# Altium footprint library TE_AMP_Connector_282836-5Pins.PcbLib: 1 footprints
Each footprint in its own frame and in the unit in brackets; x right, y up, seen from the top. Pads: shape width x height; smd on the part's side, far side on the other; paste and mask are expansions set on the pad; w line width, h text height; cw(c..) or ccw(c..) is an arc to the next point about the centre after c.
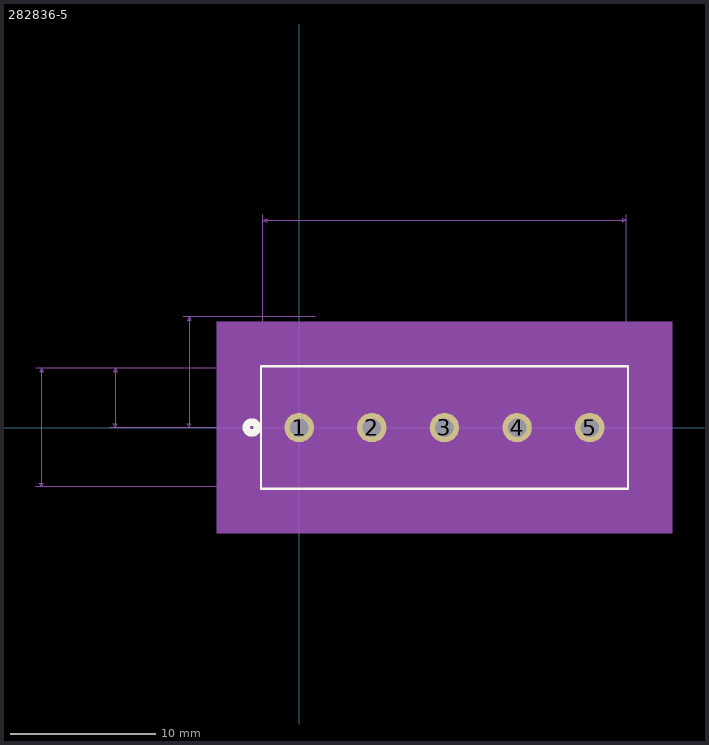
[diagram p0: the footprint, top view; thin cyan lines are the x and y axes]

## 282836-5 [mil]
pads (5):
  round 80 hole 50: 1(0,0) 2(196.85,0) 3(393.7,0) 4(590.55,0) 5(787.4,0)
Top Overlay:
  circle w20: c-128.3,0 r15
  lines w6: -103.3,-166 890.7,-166 890.7,166 -103.3,166 -103.3,-166
Bottom Overlay:
  circle w20: c-128.3,0 r15
Mechanical 5:
  region: -223.3,286 1010.7,286 1010.7,-286 -223.3,-286
Mechanical 7:
  lines w1: -713.3,-161 -98.3,-161 ; -713.3,161 -98.3,161 ; -513.3,0 393.7,0 ; -513.3,161 -98.3,161 ; -313.3,0 393.7,0 ; -313.3,300 43.7,300 ; -213.3,-100 -56.3,-100 ; -213.3,0 393.7,0 ; -198.3,-150 -198.3,-100 ; -198.3,50 -198.3,0 ; -98.3,576 -98.3,161 ; 0,0 0,276 ; 196.85,0 196.85,276 ; 885.7,161 885.7,576 ; 985.7,-50 985.7,0 ; 985.7,50 985.7,0 ; -698.3,-161 -698.3,161 ; -698.3,-161 -703.3,-151 -693.3,-151 -698.3,-161 ; -698.3,161 -703.3,151 -693.3,151 -698.3,161 ; -498.3,0 -498.3,161 ; -498.3,0 -503.3,10 -493.3,10 -498.3,0 ; -498.3,161 -503.3,151 -493.3,151 -498.3,161 ; -298.3,0 -298.3,300 ; -298.3,0 -303.3,10 -293.3,10 -298.3,0 ; -298.3,300 -303.3,290 -293.3,290 -298.3,300 ; -198.3,-100 -203.3,-110 -193.3,-110 -198.3,-100 ; -198.3,0 -203.3,10 -193.3,10 -198.3,0 ; -98.3,561 885.7,561 ; -98.3,561 -88.3,566 -88.3,556 -98.3,561 ; 0,261 196.85,261 ; 0,261 10,266 10,256 0,261 ; 196.85,261 186.85,266 186.85,256 196.85,261 ; 885.7,561 875.7,566 875.7,556 885.7,561 ; 985.7,0 980.7,10 990.7,10 985.7,0 ; 985.7,0 980.7,-10 990.7,-10 985.7,0 ; 787.4,0 1000.7,0 787.4,0
  text "Default Padstyle: EX80Y80D50P" at 31.2,-311 h50
  text "1st Mtg Padstyle: RX80Y80D50P" at 31.2,-386 h50
  text "2nd Mtg Padstyle: EX70Y70D70P" at 31.2,-461 h50
  text "3rd Mtg Padstyle: EX70Y70D70P" at 31.2,-536 h50
  text "Left Mtg Padstyle: EX60Y60D30P" at 18.7,-611 h50
  text "Right Mtg Padstyle: EX60Y60D30P" at 6.2,-686 h50
  text "Alt Padstyle 1: OX60Y90D30P" at 56.2,-761 h50
  text "Alt Padstyle 2: OX90Y60D30P" at 56.2,-836 h50
  text "0.1968504in/5mm" at 4.68,281 h25
  text "0.984in/24.994mm" at 293.7,581 h25
  text "0in/0mm" at 1005.7,-12.5 h25
  text "0in/0mm" at -305.8,-62.5 h25
  text "0.3in/7.62mm" at -468.3,137.5 h25
  text "0.161in/4.089mm" at -705.8,68 h25
  text "0.322in/8.179mm" at -905.8,-12.5 h25
Mechanical 13:
  circle w20: c0,75 r15
  lines w1: -98.3,-161 885.7,-161 885.7,161 -98.3,161 -98.3,-161
Mechanical 15:
  region: 895.7,171 -108.3,171 -108.3,-171 895.7,-171
  lines w6: -108.3,-171 -108.3,171 895.7,171 895.7,-171 -108.3,-171
3D body: height 10, standoff 0, extent 0,0 10,10